# Altium schematic symbol library Simcom.SchLib: 1 symbol
Pins are listed as number, name and electrical type; pins without a type are passive.

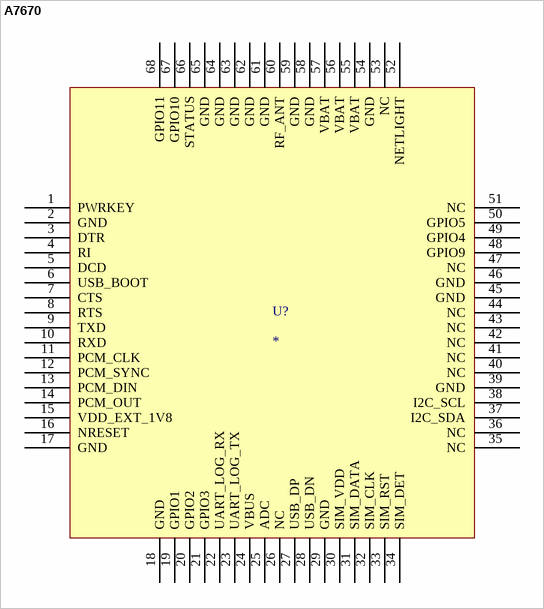
[diagram p0: symbol A7670]

## A7670
designator U?
pins: 1 PWRKEY, 2 GND, 3 DTR, 4 RI, 5 DCD, 6 USB_BOOT, 7 CTS, 8 RTS, 9 TXD, 10 RXD, 11 PCM_CLK, 12 PCM_SYNC, 13 PCM_DIN, 14 PCM_OUT, 15 VDD_EXT_1V8, 16 NRESET, 17 GND, 18 GND, 19 GPIO1, 20 GPIO2, 21 GPIO3, 22 UART_LOG_RX, 23 UART_LOG_TX, 24 VBUS, 25 ADC, 26 NC, 27 USB_DP, 28 USB_DN, 29 GND, 30 SIM_VDD, 31 SIM_DATA, 32 SIM_CLK, 33 SIM_RST, 34 SIM_DET, 35 NC, 36 NC, 37 I2C_SDA, 38 I2C_SCL, 39 GND, 40 NC, 41 NC, 42 NC, 43 NC, 44 NC, 45 GND, 46 GND, 47 NC, 48 GPIO9, 49 GPIO4, 50 GPIO5, 51 NC, 52 NETLIGHT, 53 NC, 54 GND, 55 VBAT, 56 VBAT, 57 VBAT, 58 GND, 59 GND, 60 RF_ANT, 61 GND, 62 GND, 63 GND, 64 GND, 65 GND, 66 STATUS, 67 GPIO10, 68 GPIO11, 69 GND, 70 GND, 71 GND, 72 GND, 73 GND, 74 GND, 75 GND, 76 GND, 77 GND, 78 GND, 79 GND, 80 GND, 81 GND, 82 GND, 83 GND, 84 GND, 85 GND, 86 GND, 87 GND, 88 GND